# Altium footprint library OL_0805_2012.PcbLib: 1 footprints
Each footprint in its own frame and in the unit in brackets; x right, y up, seen from the top. Pads: shape width x height; smd on the part's side, far side on the other; paste and mask are expansions set on the pad; w line width, h text height; cw(c..) or ccw(c..) is an arc to the next point about the centre after c.
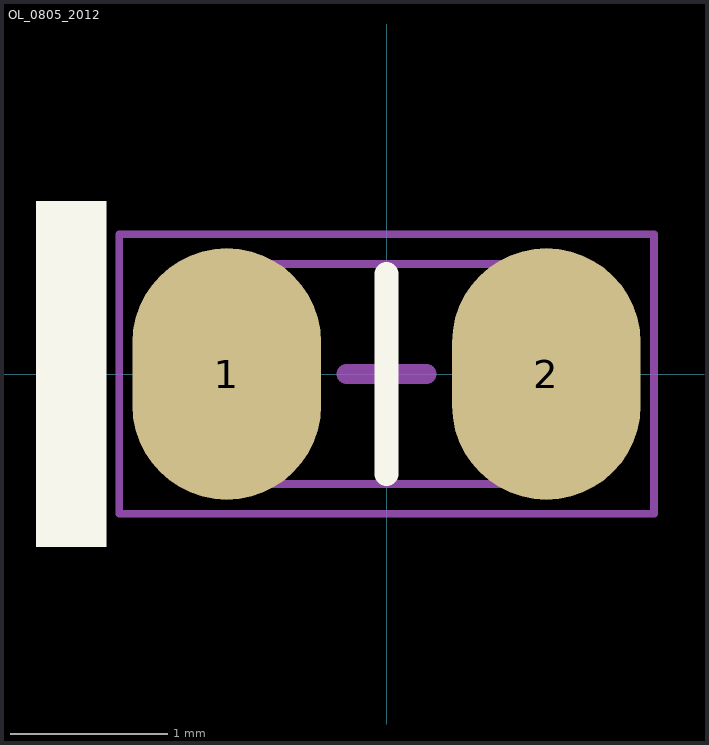
[diagram p0: the footprint, top view; thin cyan lines are the x and y axes]

## OL_0805_2012 [mm]
pads (2):
  oval 1.2x1.6 smd mask+0.05: 1(-1.016,0) 2(1.016,0)
Top Overlay:
  rectangle: -2.23,-1.1 -1.78,1.1
  lines w0.152: 0,-0.635 0,0.635
Assembly Top:
  lines w0.051: -1.1,-0.7 1.1,-0.7 1.1,0.7 -1.1,0.7 -1.1,-0.7
  lines w0.127: -0.762,-0.381 -0.762,0.381
Courtyard Top:
  lines w0.05: -1.7,-0.889 1.7,-0.889 1.7,0.889 -1.7,0.889 -1.7,-0.889
  lines w0.127: -0.254,0 0.254,0 ; 0,-0.254 0,0.254
3D body "User Library-LED SMD0805.step": height 0.85, standoff 0.01, extent -1.022,-0.46 1.041,0.447